# EAGLE library part TLV5616 (library ti-tlv5616)
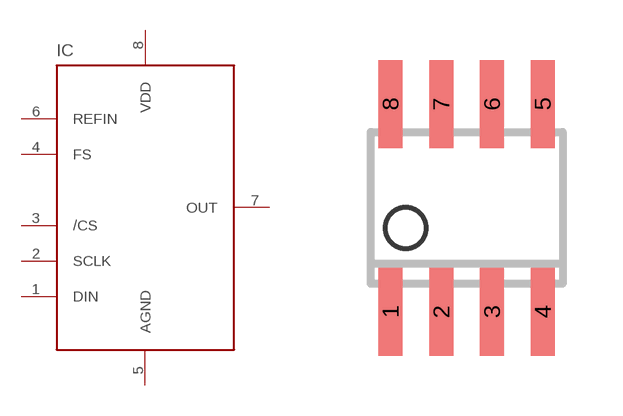
[diagram p0: symbol with the pads of SO08; footprint SO08]

Designator prefix IC

## TLV5616  [SO08]
1  DIN
2  SCLK
3  /CS
4  FS
5  AGND
6  REFIN
7  OUT
8  VDD

## Footprint SO08 (pad centres in mm)
Small Outline Package 8 NS Package M08A
smd 0.6 x 2.2: 1 -1.905,-2.6; 2 -0.635,-2.6; 3 0.635,-2.6; 4 1.905,-2.6; 5 1.905,2.6; 6 0.635,2.6; 7 -0.635,2.6; 8 -1.905,2.6